# Altium schematic symbol library TI_PCM510xA.SchLib: 1 symbol
Pins are listed as number, name and electrical type; pins without a type are passive.

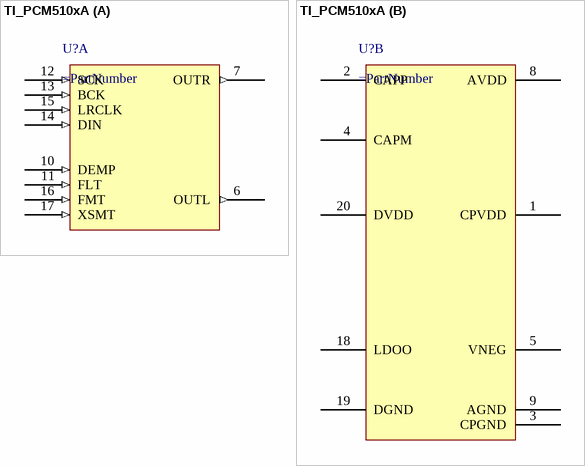
[diagram p0: symbol TI_PCM510xA]

## TI_PCM510xA
designator U?
part A pins: 6 OUTL (out), 7 OUTR (out), 10 DEMP (in), 11 FLT (in), 12 SCK (in), 13 BCK (in), 14 DIN (in), 15 LRCLK (in), 16 FMT (in), 17 XSMT (in)
part B pins: 1 CPVDD, 2 CAPP, 3 CPGND, 4 CAPM, 5 VNEG, 8 AVDD, 9 AGND, 18 LDOO, 19 DGND, 20 DVDD